# Altium footprint library Active.PcbLib: 10 footprints
Each footprint in its own frame and in the unit in brackets; x right, y up, seen from the top. Pads: shape width x height; smd on the part's side, far side on the other; paste and mask are expansions set on the pad; w line width, h text height; cw(c..) or ccw(c..) is an arc to the next point about the centre after c.
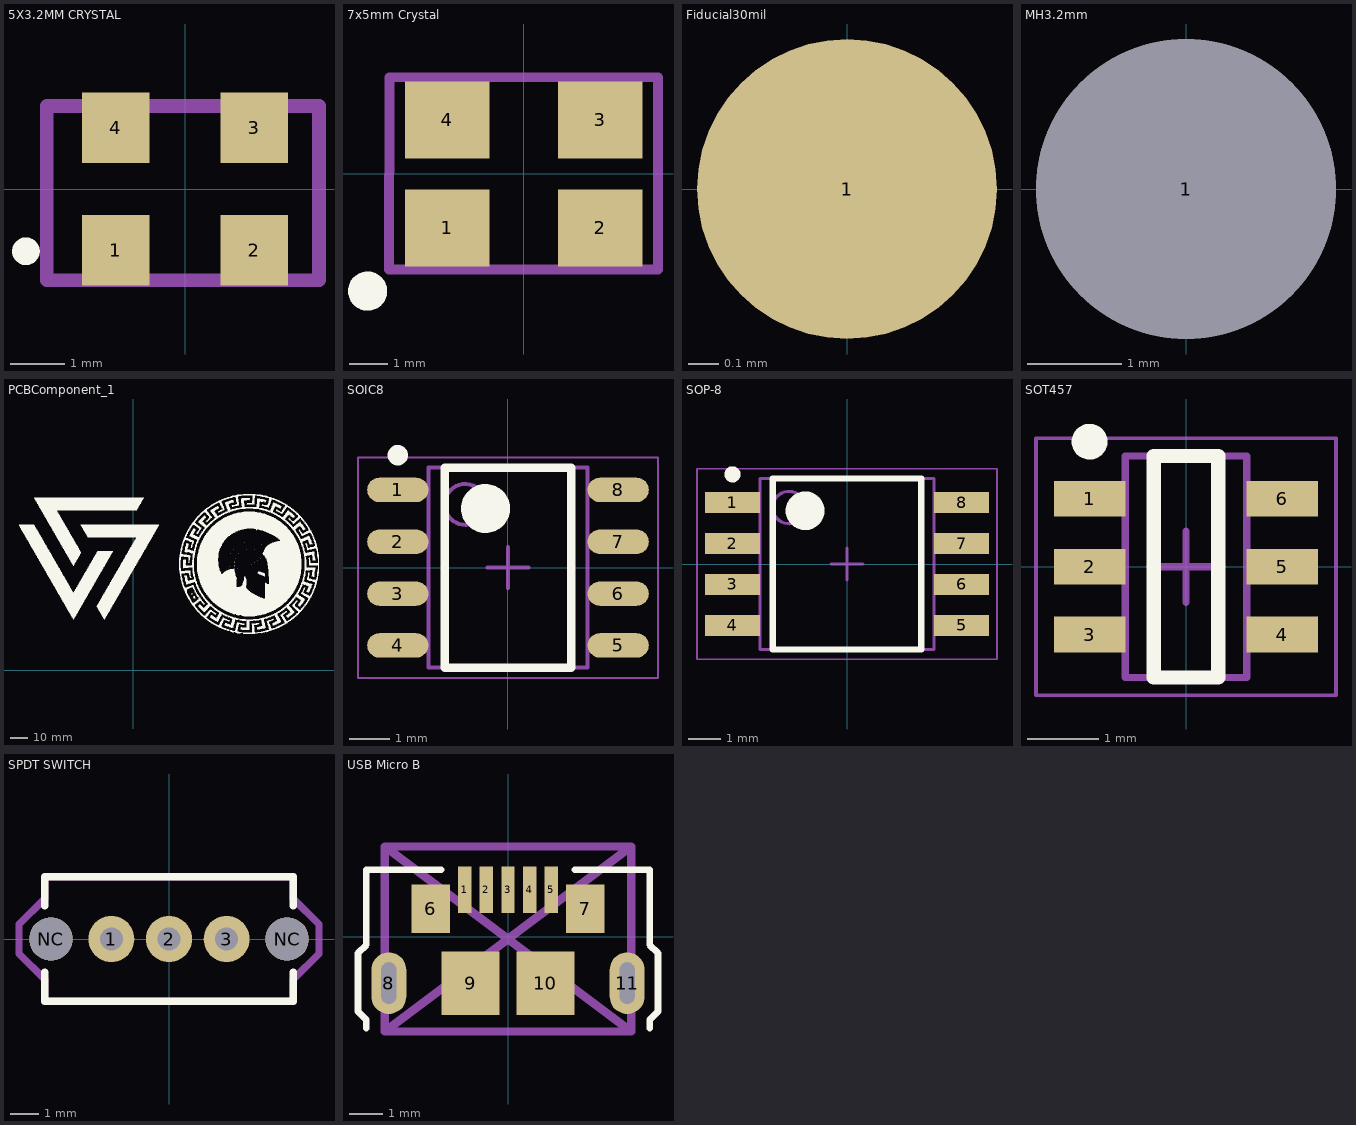
[diagram p0: the footprints below, top view; thin cyan lines are the x and y axes]

## 5X3.2MM CRYSTAL [mm]
pads (4):
  rect 1.24x1.29 smd: 1(-1.27,-1.125) 2(1.27,-1.125) 3(1.27,1.125) 4(-1.27,1.125)
Top Overlay:
  circle w0.254: c-2.921,-1.143 r0.127
Mechanical 1:
  lines w0.254: -2.54,-1.676 2.46,-1.676 2.46,1.524 -2.54,1.524 -2.54,-1.676
3D body "User Library-Oscillator_ECS-3225S.STEP": height 0.92, standoff 0, extent -1.6,-1.25 1.6,1.25

## 7x5mm Crystal [mm] "12Mhz"
pads (4):
  rect 2.2x2 smd: 1(-1.99,-1.405) 2(1.99,-1.405) 3(1.99,1.405) 4(-1.99,1.405)
Top Overlay:
  circle w0.52: c-4.064,-3.048 r0.25
Mechanical 1:
  lines w0.254: -3.507,-2.485 3.493,-2.485 3.493,2.515 -3.493,2.515 -3.507,-2.485
3D body "User Library-ECS-3951.STEP": height 1.7, standoff 0, extent -3.5,-2.501 3.5,2.501

## Fiducial30mil [mm]
pads (1):
  round 1 smd mask+0.5: 1(0,0)

## MH3.2mm [mm]
pads (1):
  round 3.2 hole 3.2 unplated mask+2: 1(0,0)

## PCBComponent_1 [mm]
Top Overlay:
  drawing of 8 lines, arcs and shapes, not listed

## SOIC8 [mm] "SOIC, 8-Leads, Body 4.90x3.90mm, Pitch 1.27mm, IPC Medium Density"
height 1.75
pads (8):
  oval 1.5x0.6 smd: 1(-2.7,1.905) 2(-2.7,0.635) 3(-2.7,-0.635) 4(-2.7,-1.905) 5(2.7,-1.905) 6(2.7,-0.635) 7(2.7,0.635) 8(2.7,1.905)
Top Overlay:
  circle w0.6: c-0.55,1.45 r0.3
  circle w0.25: c-2.7,2.755 r0.125
  lines w0.2: -1.55,-2.45 1.55,-2.45 1.55,2.45 -1.55,2.45 -1.55,-2.45
Mechanical 13:
  circle w0.1: c-1.05,1.55 r0.5
  lines w0.1: -1.95,-2.45 1.95,-2.45 1.95,2.45 -1.95,2.45 -1.95,-2.45
Mechanical 15:
  lines w0.05: -3.675,-2.7 3.675,-2.7 3.675,2.7 -3.675,2.7 -3.675,-2.7
  lines w0.1: -0.5,0 0.5,0 ; 0,-0.5 0,0.5
3D body "SOIC8.step": height 1.75, standoff 0, extent -3,-2.45 3,2.45

## SOP-8 [mm]
height 1.75
pads (8):
  rect 1.7x0.65 smd: 1(-3.55,1.905) 2(-3.55,0.635) 3(-3.55,-0.635) 4(-3.55,-1.905) 5(3.55,-1.905) 6(3.55,-0.635) 7(3.55,0.635) 8(3.55,1.905)
Top Overlay:
  circle w0.25: c-3.55,2.78 r0.125
  circle w0.6: c-1.3,1.65 r0.3
  lines w0.2: -2.3,-2.65 -2.3,2.65 2.3,2.65 2.3,-2.65 -2.3,-2.65
Mechanical 13:
  circle w0.1: c-1.8,1.75 r0.5
  lines w0.1: -2.7,-2.65 -2.7,2.65 2.7,2.65 2.7,-2.65 -2.7,-2.65
Mechanical 15:
  lines w0.05: -4.65,-2.95 -4.65,2.95 4.65,2.95 4.65,-2.95 -4.65,-2.95
  lines w0.1: -0.5,0 0.5,0 ; 0,-0.5 0,0.5
3D body "SOP-8.step": height 2.16, standoff 0, extent -3.95,-2.65 3.95,2.65

## SOT457 [mm] "BZA462A,125"
height 1.1
pads (6):
  rect 1x0.5 smd: 1(-1.35,0.95) 2(-1.35,0) 3(-1.35,-0.95) 4(1.35,-0.95) 5(1.35,0) 6(1.35,0.95)
Top Overlay:
  circle w0.25: c-1.35,1.75 r0.125
  lines w0.2: -0.45,-1.55 -0.45,1.55 0.45,1.55 0.45,-1.55 -0.45,-1.55
Mechanical 13:
  lines w0.1: -0.85,-1.55 0.85,-1.55 0.85,1.55 -0.85,1.55 -0.85,-1.55
Mechanical 15:
  lines w0.05: -2.1,-1.8 2.1,-1.8 2.1,1.8 -2.1,1.8 -2.1,-1.8
  lines w0.1: -0.5,0 0.5,0 ; 0,-0.5 0,0.5
3D body "SOT457.step": height 1.1, standoff 0, extent -1.5,-1.55 1.5,1.55

## SPDT SWITCH [mm] "C&K COMPONENTS OS102011MS2QS1"
pads (5):
  round 1.6 hole 0.8: 1(-2,0) 2(0,0) 3(2,0)
  round 1.5 hole 1.5 unplated mask+0.2: NC(-4.1,0) NC(4.1,0)
Top Overlay:
  lines w0.254: -4.318,-1.143 -4.318,-2.159 4.318,-2.159 4.318,-1.143 ; -4.318,1.143 -4.318,2.159 4.318,2.159 4.318,1.143
Mechanical 1:
  lines w0.254: -4.318,2.141 -4.318,1.397 -5.207,0.508 -5.207,-0.508 -4.318,-1.397 -4.318,-2.159 4.318,-2.159 4.318,-1.397 5.207,-0.508 5.207,0.508 4.318,1.397 4.318,2.141 ; -4.282,2.159 4.318,2.159
3D body "2468746_1825159-1.stp": height 10, standoff -2, extent -6.5,-3.05 6.5,3.05

## USB Micro B [mm] "USB3076"
pads (11):
  rect 0.4x1.4 smd: 1(-1.3,1.4) 2(-0.65,1.4) 3(0,1.4) 4(0.65,1.4) 5(1.3,1.4)
  rect 1.15x1.45 smd: 6(-2.32,0.83) 7(2.32,0.83)
  oval 1.05x1.85 hole 1.25 slot 0.45 at 0 deg: 8(-3.575,-1.4) 11(3.575,-1.4)
  rect 1.75x1.9 smd: 9(-1.125,-1.4) 10(1.125,-1.4)
Top Overlay:
  lines w0.2: -4.25,-2.75 -4.25,-2.5 -4.5,-2.25 -4.5,-0.5 -4.25,-0.25 -4.25,2 -2,2 ; 2,2 4.25,2 4.25,-0.25 4.5,-0.5 4.5,-2.25 4.25,-2.5 4.25,-2.75
Mechanical 1:
  lines w0.254: -3.7,-2.85 3.7,-2.85 ; -3.7,-2.85 -3.7,2.7 ; -3.7,-2.85 3.7,2.7 ; -3.7,2.7 3.7,2.7 ; -3.7,2.7 3.7,-2.85 ; 3.7,-2.85 3.7,2.7
3D body "zx62d-b-5pa8_30_.stp": height 2.73, standoff -0.75, extent -4.047,-4.1 4.047,1.7